# EAGLE library part PHOTON_SMD (library Particle-Devices)
Particle Photon (without headers) WiFi development board footprint - designed to be surface mounted with 7 extra exposed pads on the bottom of the board which include, 3 RGB LED outputs, /SETUP, EN (3.3V SMPS enable input), USB D+ and USB D-. Product datasheet: here <https://docs.particle.io/datasheets/photon-(wifi)/photon-datasheet/> Design files: here <https://github.com/particle-iot/photon> Github : Particle devices library <https://github.com/particle-iot/hardware-libraries/tree/master/Eagle>
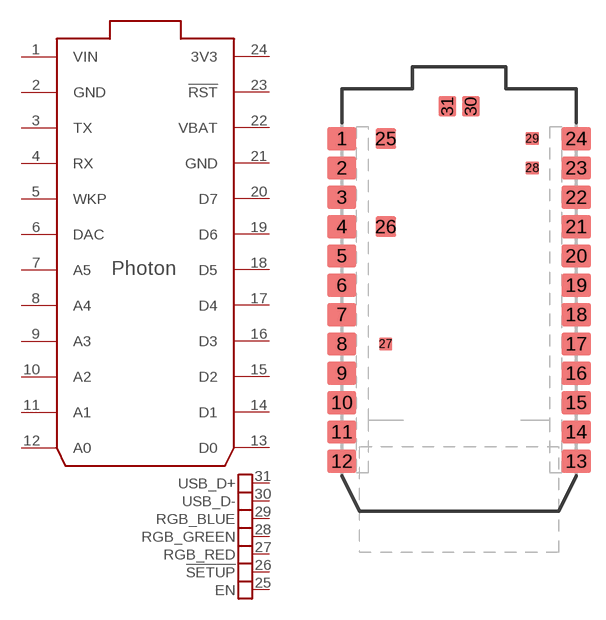
[diagram p4: symbol with the pads of PHOTON_SMD; footprint PHOTON_SMD]

Designator prefix -; gates G$1=PHOTON G$2=PHOTON_PADS

## PHOTON_SMD  [PHOTON_SMD]
1  G$1:VIN  pwr
2  G$1:GND  pwr
3  G$1:TX
4  G$1:RX
5  G$1:WKP
6  G$1:DAC
7  G$1:A5
8  G$1:A4
9  G$1:A3
10  G$1:A2
11  G$1:A1
12  G$1:A0
13  G$1:D0
14  G$1:D1
15  G$1:D2
16  G$1:D3
17  G$1:D4
18  G$1:D5
19  G$1:D6
20  G$1:D7
21  G$1:GND  pwr
22  G$1:VBAT  pwr
23  G$1:!RST
24  G$1:3V3  pwr
25  G$2:EN
26  G$2:!SETUP
27  G$2:RGB_RED
28  G$2:RGB_GREEN
29  G$2:RGB_BLUE
30  G$2:USB_D-
31  G$2:USB_D+

## Footprint PHOTON_SMD (pad centres in mm)
smd 2.54 x 2.032: 1 0,33.02; 2 0,30.48; 3 0,27.94; 4 0,25.4; 5 0,22.86; 6 0,20.32; 7 0,17.78; 8 0,15.24; 9 0,12.7; 10 0,10.16; 11 0,7.62; 12 0,5.08; 13 20.32,5.08; 14 20.32,7.62; 15 20.32,10.16; 16 20.32,12.7; 17 20.32,15.24; 18 20.32,17.78; 19 20.32,20.32; 20 20.32,22.86; 21 20.32,25.4; 22 20.32,27.94; 23 20.32,30.48; 24 20.32,33.02
smd 1.778 x 1.778: 25 3.81,33.02; 26 3.81,25.4
smd 1.143 x 1.143: 27 3.81,15.24; 28 16.51,30.48; 29 16.51,33.02
smd 1.524 x 1.778: 30 11.176,35.814; 31 9.144,35.814